# Altium integrated library AT89S52-24AUR.IntLib: 1 symbol
Pins are listed as number, name and electrical type; pins without a type are passive.

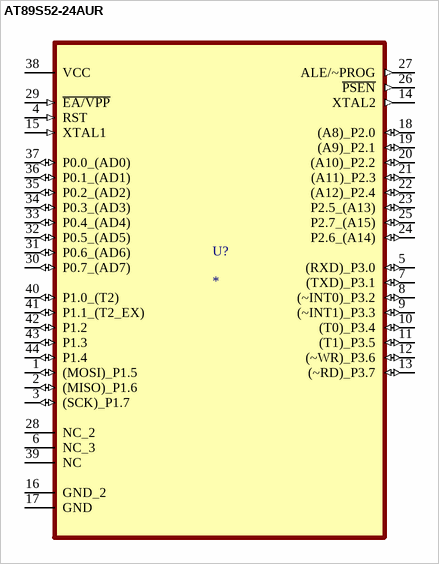
[diagram p0: symbol AT89S52-24AUR]

## AT89S52-24AUR
designator U?
8-bit Microcontroller; MP: AT89S52-24AUR; Package: None; Price: None; Value: *; Availability: Unavailable
footprint QFP80P1200X1200X120-44N
pins: 1 (MOSI)_P1.5 (io), 2 (MISO)_P1.6 (io), 3 (SCK)_P1.7 (io), 4 RST (in), 5 (RXD)_P3.0 (io), 6 NC_3, 7 (TXD)_P3.1 (io), 8 (~INT0)_P3.2 (io), 9 (~INT1)_P3.3 (io), 10 (T0)_P3.4 (io), 11 (T1)_P3.5 (io), 12 (~WR)_P3.6 (io), 13 (~RD)_P3.7 (io), 14 XTAL2 (out), 15 XTAL1 (in), 16 GND_2, 17 GND, 18 (A8)_P2.0 (io), 19 (A9)_P2.1 (io), 20 (A10)_P2.2 (io), 21 (A11)_P2.3 (io), 22 (A12)_P2.4 (io), 23 P2.5_(A13) (io), 24 P2.6_(A14) (io), 25 P2.7_(A15) (io), 26 ~{PSEN} (out), 27 ALE/~PROG (out), 28 NC_2, 29 ~{EA/VPP} (in), 30 P0.7_(AD7) (io), 31 P0.6_(AD6) (io), 32 P0.5_(AD5) (io), 33 P0.4_(AD4) (io), 34 P0.3_(AD3) (io), 35 P0.2_(AD2) (io), 36 P0.1_(AD1) (io), 37 P0.0_(AD0) (io), 38 VCC (power), 39 NC, 40 P1.0_(T2) (io), 41 P1.1_(T2_EX) (io), 42 P1.2 (io), 43 P1.3 (io), 44 P1.4 (io)